# EAGLE library part TMPM04253 (library zkseagle)
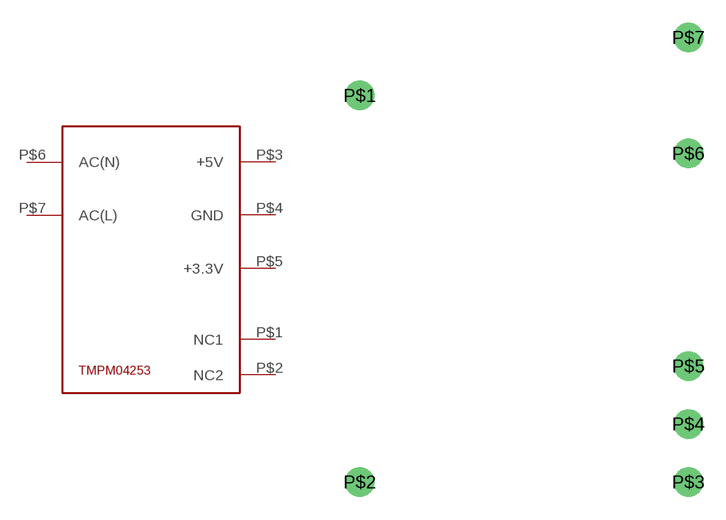
[diagram p4: symbol with the pads of TMPM04253; footprint TMPM04253]

Designator prefix -

## TMPM04253  [TMPM04253]
P$1  NC1
P$2  NC2
P$3  +5V  pwr
P$4  GND  pwr
P$5  +3.3V  pwr
P$6  AC(N)  pwr
P$7  AC(L)  pwr

## Footprint TMPM04253 (pad centres in mm)
drill 0.8 pad 1.93: P$1 0,25.4; P$2 0,0; P$3 21.59,0; P$4 21.59,3.81; P$5 21.59,7.62; P$6 21.59,21.59; P$7 21.59,29.21